# Altium schematic symbol library SmallyMouse2.SchLib: 11 symbols
Pins are listed as number, name and electrical type; pins without a type are passive.

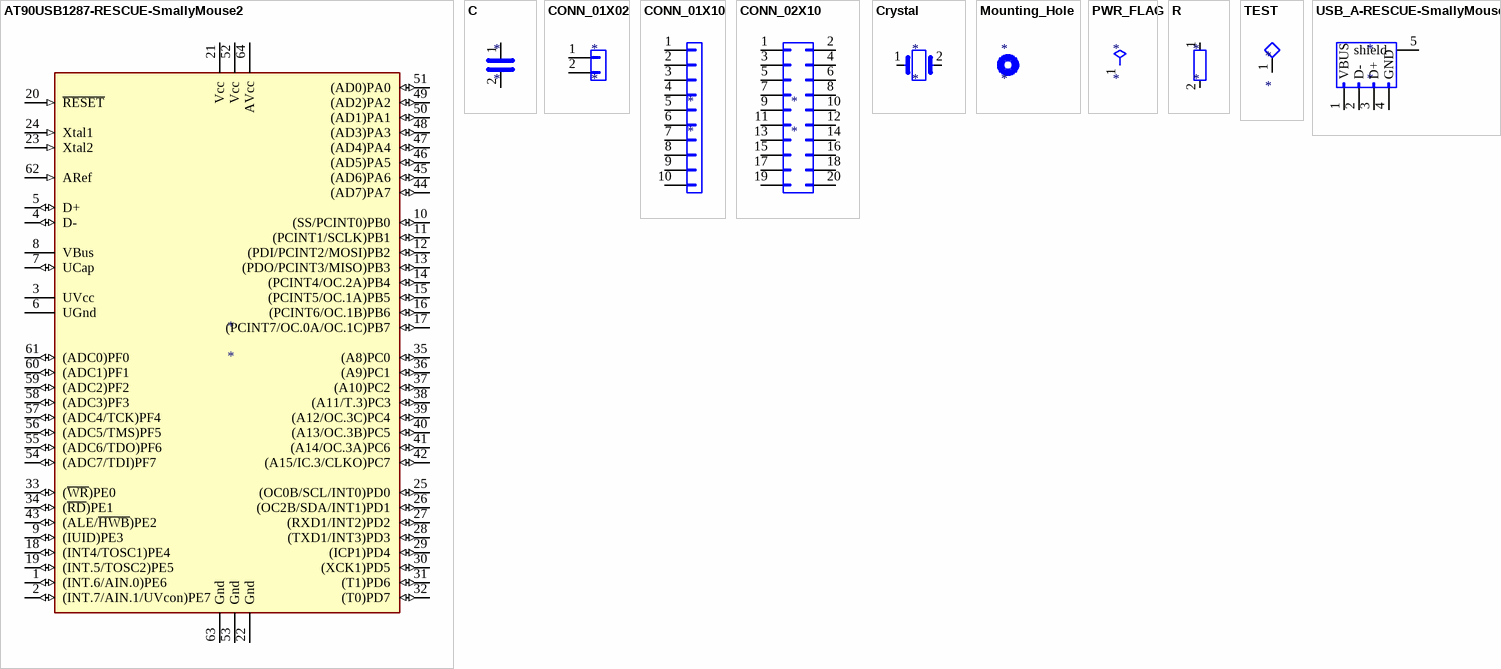
[diagram p0: symbols AT90USB1287-RESCUE-SmallyMouse2 to USB_A-RESCUE-SmallyMouse2]

## AT90USB1287-RESCUE-SmallyMouse2
designator *
pins: 1 (INT.6/AIN.0)PE6 (io), 2 (INT.7/AIN.1/UVcon)PE7 (io), 3 UVcc (power), 4 D- (io), 5 D+ (io), 6 UGnd (power), 7 UCap (io), 8 VBus (power), 9 (IUID)PE3 (io), 10 (SS/PCINT0)PB0 (io), 11 (PCINT1/SCLK)PB1 (io), 12 (PDI/PCINT2/MOSI)PB2 (io), 13 (PDO/PCINT3/MISO)PB3 (io), 14 (PCINT4/OC.2A)PB4 (io), 15 (PCINT5/OC.1A)PB5 (io), 16 (PCINT6/OC.1B)PB6 (io), 17 (PCINT7/OC.0A/OC.1C)PB7 (io), 18 (INT4/TOSC1)PE4 (io), 19 (INT.5/TOSC2)PE5 (io), 20 ~{RESET} (in), 21 Vcc (power), 22 Gnd (power), 23 Xtal2 (in), 24 Xtal1 (in), 25 (OC0B/SCL/INT0)PD0 (io), 26 (OC2B/SDA/INT1)PD1 (io), 27 (RXD1/INT2)PD2 (io), 28 (TXD1/INT3)PD3 (io), 29 (ICP1)PD4 (io), 30 (XCK1)PD5 (io), 31 (T1)PD6 (io), 32 (T0)PD7 (io), 33 (~{WR})PE0 (io), 34 (~{RD})PE1 (io), 35 (A8)PC0 (io), 36 (A9)PC1 (io), 37 (A10)PC2 (io), 38 (A11/T.3)PC3 (io), 39 (A12/OC.3C)PC4 (io), 40 (A13/OC.3B)PC5 (io), 41 (A14/OC.3A)PC6 (io), 42 (A15/IC.3/CLKO)PC7 (io), 43 (ALE/~{HWB})PE2 (io), 44 (AD7)PA7 (io), 45 (AD6)PA6 (io), 46 (AD5)PA5 (io), 47 (AD4)PA4 (io), 48 (AD3)PA3 (io), 49 (AD2)PA2 (io), 50 (AD1)PA1 (io), 51 (AD0)PA0 (io), 52 Vcc (power), 53 Gnd (power), 54 (ADC7/TDI)PF7 (io), 55 (ADC6/TDO)PF6 (io), 56 (ADC5/TMS)PF5 (io), 57 (ADC4/TCK)PF4 (io), 58 (ADC3)PF3 (io), 59 (ADC2)PF2 (io), 60 (ADC1)PF1 (io), 61 (ADC0)PF0 (io), 62 ARef (in), 63 Gnd (power), 64 AVcc (power)

## C
designator *
pins: 1, 2

## CONN_01X02
designator *
pins: 1 P1, 2 P2

## CONN_01X10
designator *
pins: 1 P1, 2 P2, 3 P3, 4 P4, 5 P5, 6 P6, 7 P7, 8 P8, 9 P9, 10 P10

## CONN_02X10
designator *
pins: 1 P1, 2 P2, 3 P3, 4 P4, 5 P5, 6 P6, 7 P7, 8 P8, 9 P9, 10 P10, 11 P11, 12 P12, 13 P13, 14 P14, 15 P15, 16 P16, 17 P17, 18 P18, 19 P19, 20 P20

## Crystal
designator *
pins: 1, 2

## Mounting_Hole
designator *

## PWR_FLAG
designator *  (graphical)
pins: 1 pwr (power)

## R
designator *
pins: 1, 2

## TEST
designator *
pins: 1

## USB_A-RESCUE-SmallyMouse2
designator *
pins: 1 VBUS (power), 2 D-, 3 D+, 4 GND (power), 5 shield